# EAGLE library part PCI-E1X (library con-pci_express%28pci-e%29)
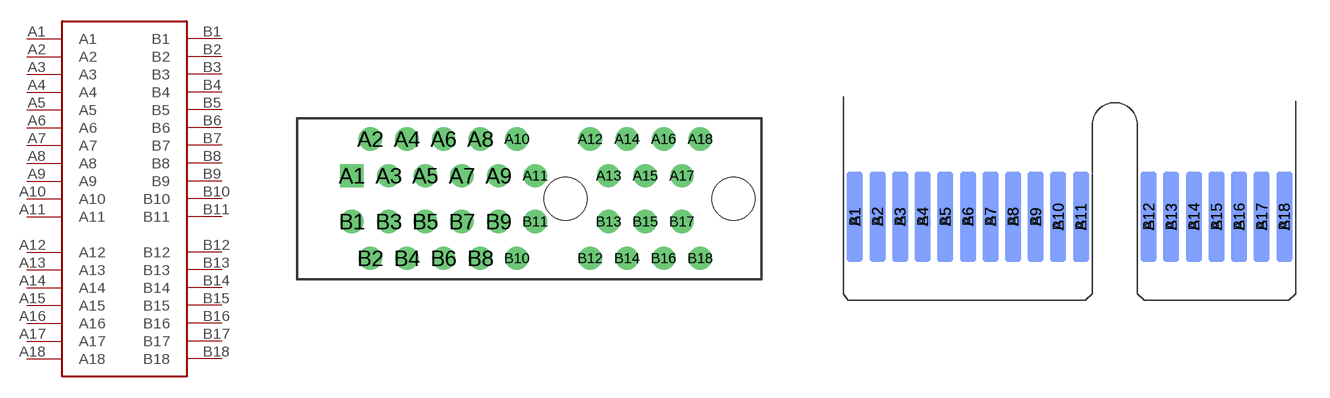
[diagram p2: symbol with the pads of PCI-E_36_CONN; footprints PCI-E_36_CONN, PCI-E_36_EDGE]

Designator prefix -

## PCI-E1XCONN  [PCI-E_36_CONN]
A1  A1
A2  A2
A3  A3
A4  A4
A5  A5
A6  A6
A7  A7
A8  A8
A9  A9
A10  A10
A11  A11
A12  A12
A13  A13
A14  A14
A15  A15
A16  A16
A17  A17
A18  A18
B1  B1
B2  B2
B3  B3
B4  B4
B5  B5
B6  B6
B7  B7
B8  B8
B9  B9
B10  B10
B11  B11
B12  B12
B13  B13
B14  B14
B15  B15
B16  B16
B17  B17
B18  B18

## PCI-E1XEDGE  [PCI-E_36_EDGE]
Pads as for PCI-E_36_CONN

## Footprint PCI-E_36_CONN (pad centres in mm)
drill 0.7 pad 1.27 square: A1 -11.65,1.25
drill 0.7 pad 1.27: A2 -10.65,3.25; A3 -9.65,1.25; A4 -8.65,3.25; A5 -7.65,1.25; A6 -6.65,3.25; A7 -5.65,1.25; A8 -4.65,3.25; A9 -3.65,1.25; A10 -2.65,3.25; A11 -1.65,1.25; A12 1.35,3.25; A13 2.35,1.25; A14 3.35,3.25; A15 4.35,1.25; A16 5.35,3.25; A17 6.35,1.25; A18 7.35,3.25; B1 -11.65,-1.25; B2 -10.65,-3.25; B3 -9.65,-1.25; B4 -8.65,-3.25; B5 -7.65,-1.25; B6 -6.65,-3.25; B7 -5.65,-1.25; B8 -4.65,-3.25; B9 -3.65,-1.25; B10 -2.65,-3.25; B11 -1.65,-1.25; B12 1.35,-3.25; B13 2.35,-1.25; B14 3.35,-3.25; B15 4.35,-1.25; B16 5.35,-3.25; B17 6.35,-1.25; B18 7.35,-3.25
hole 2.35 at 0,0
hole 2.35 at 9.15,0

## Footprint PCI-E_36_EDGE (pad centres in mm)
smd 0.7 x 4 bottom: A1 -9,0.01; A2 -8,0.01; A3 -7,0.01; A4 -6,0.01; A5 -5,0.01; A6 -4,0.01; A7 -3,0.01; A8 -2,0.01; A9 -1,0.01; A10 0,0.01; A11 1,0.01; A12 4,0.01; A13 5,0.01; A14 6,0.01; A15 7,0.01; A16 8,0.01; A17 9,0.01; A18 10,0.01
smd 0.7 x 4: B1 -9,0.01; B2 -8,0.01; B3 -7,0.01; B4 -6,0.01; B5 -5,0.01; B6 -4,0.01; B7 -3,0.01; B8 -2,0.01; B9 -1,0.01; B10 0,0.01; B11 1,0.01; B12 4,0.01; B13 5,0.01; B14 6,0.01; B15 7,0.01; B16 8,0.01; B17 9,0.01; B18 10,0.01